# Altium footprint library SOP.PcbLib: 58 footprints (part 3 of 4)
Each footprint in its own frame and in the unit in brackets; x right, y up, seen from the top. Pads: shape width x height; smd on the part's side, far side on the other; paste and mask are expansions set on the pad; w line width, h text height; cw(c..) or ccw(c..) is an arc to the next point about the centre after c.
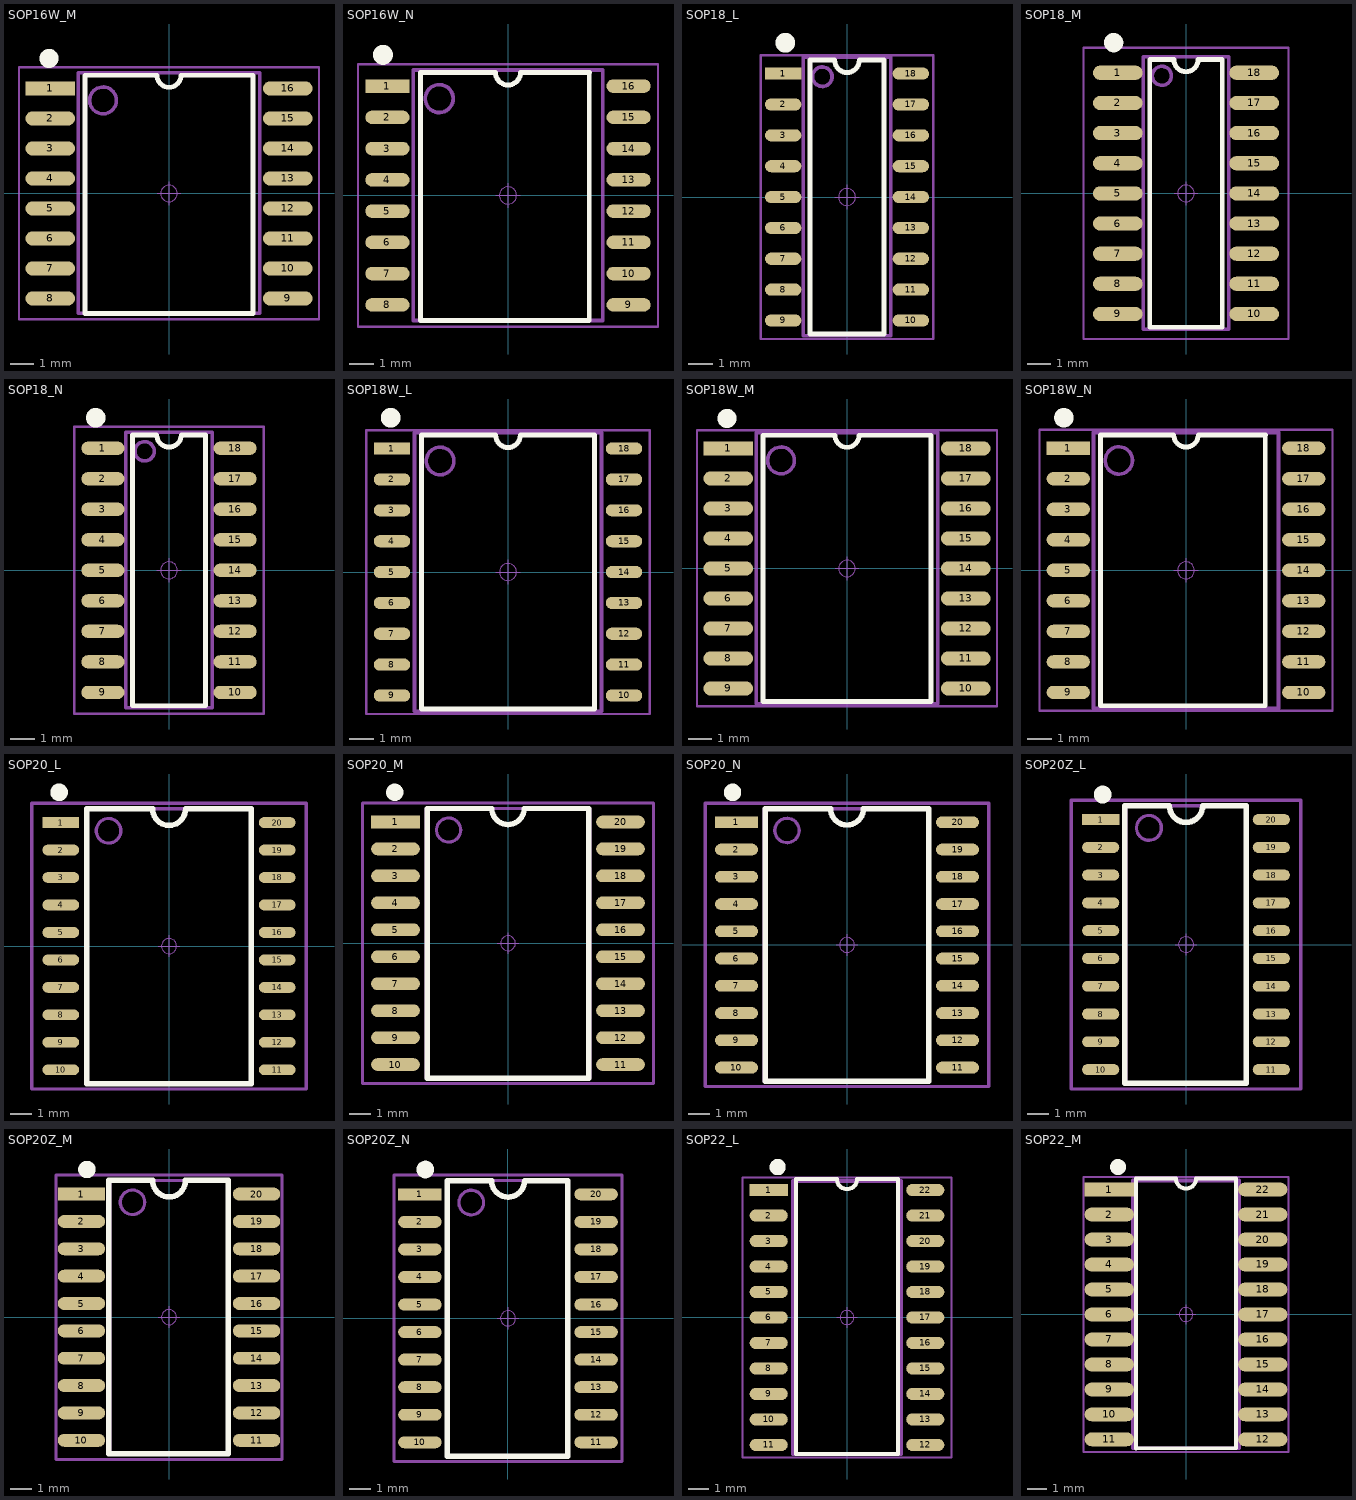
[diagram p2: the footprints below, top view; thin cyan lines are the x and y axes]

## SOP16W_M [mm] "10.3*10.3*2.6mm（长宽高）"
height 1.75
pads (16):
  rect 2.1x0.6 smd: 1(-5.025,4.445)
  oval 2.1x0.6 smd: 2(-5.025,3.175) 3(-5.025,1.905) 4(-5.025,0.635) 5(-5.025,-0.635) 6(-5.025,-1.905) 7(-5.025,-3.175) 8(-5.025,-4.445) 9(5.025,-4.445) 10(5.025,-3.175) 11(5.025,-1.905) 12(5.025,-0.635) 13(5.025,0.635) 14(5.025,1.905) 15(5.025,3.175) 16(5.025,4.445)
Top Overlay:
  circle w0.5: c-5.08,5.715 r0.155
  lines w0.2: -3.556,5 -3.556,-5.08 3.556,-5.08 3.556,5
  lines w0.203: -3.556,5 -0.508,5 ccw(c0,5) 0,4.492 ccw(c0,5) 0.508,5 3.556,5
Mechanical 13:
  circle w0.15: c-2.794,3.937 r0.568
  lines w0.15: -3.85,-5.08 -3.85,5.1 3.85,5.1 3.85,-5.08 -3.85,-5.08
Mechanical 15:
  circle w0.05: c0,0 r0.35
  lines w0.05: -0.5,0 0.5,0 ; 0,-0.5 0,0.5
  lines w0.1: -6.35,-5.334 6.35,-5.334 6.35,5.334 -6.35,5.334 -6.35,-5.334
3D body "SOP16W.STEP": height 2.7, standoff 0, extent -5.153,-5.15 5.153,5.15

## SOP16W_N [mm] "10.3*10.3*2.6mm（长宽高）"
height 1.75
pads (16):
  rect 1.8x0.55 smd: 1(-4.9,4.445)
  oval 1.8x0.55 smd: 2(-4.9,3.175) 3(-4.9,1.905) 4(-4.9,0.635) 5(-4.9,-0.635) 6(-4.9,-1.905) 7(-4.9,-3.175) 8(-4.9,-4.445) 9(4.9,-4.445) 10(4.9,-3.175) 11(4.9,-1.905) 12(4.9,-0.635) 13(4.9,0.635) 14(4.9,1.905) 15(4.9,3.175) 16(4.9,4.445)
Top Overlay:
  circle w0.5: c-5.08,5.715 r0.155
  lines w0.2: -3.556,5 -3.556,-5.08 3.302,-5.08 3.302,5
  lines w0.203: -3.556,5 -0.508,5 ccw(c0,5) 0,4.492 ccw(c0,5) 0.508,5 3.302,5
Mechanical 13:
  circle w0.15: c-2.794,3.937 r0.568
  lines w0.15: -3.85,-5.08 3.85,-5.08 3.85,5.1 -3.85,5.1 -3.85,-5.08
Mechanical 15:
  circle w0.05: c0,0 r0.35
  lines w0.05: -0.5,0 0.5,0 ; 0,-0.5 0,0.5
  lines w0.1: -6.096,-5.334 6.096,-5.334 6.096,5.334 -6.096,5.334 -6.096,-5.334
3D body "SOP16W.STEP": height 2.7, standoff 0, extent -5.153,-5.15 5.153,5.15

## SOP18_L [mm] "11.5*6.2*1.8mm（长宽高）"
height 1.75
pads (18):
  rect 1.5x0.5 smd: 1(-2.625,5.08)
  oval 1.5x0.5 smd: 2(-2.625,3.81) 3(-2.625,2.54) 4(-2.625,1.27) 5(-2.625,0) 6(-2.625,-1.27) 7(-2.625,-2.54) 8(-2.625,-3.81) 9(-2.625,-5.08) 10(2.625,-5.08) 11(2.625,-3.81) 12(2.625,-2.54) 13(2.625,-1.27) 14(2.625,0) 15(2.625,1.27) 16(2.625,2.54) 17(2.625,3.81) 18(2.625,5.08)
Top Overlay:
  circle w0.5: c-2.54,6.35 r0.155
  lines w0.2: -1.524,5.635 -1.524,-5.635 1.524,-5.635 1.524,5.635
  lines w0.203: -1.524,5.635 -0.508,5.635 ccw(c0,5.635) 0,5.127 ccw(c0,5.635) 0.508,5.635 1.524,5.635
Mechanical 13:
  circle w0.15: c-1.016,4.953 r0.402
  lines w0.15: -1.8,-5.715 1.8,-5.715 1.8,5.75 -1.8,5.75 -1.8,-5.715
Mechanical 15:
  circle w0.05: c0,0 r0.35
  lines w0.05: -0.5,0 0.5,0 ; 0,-0.5 0,0.5
  lines w0.1: -3.556,-5.842 3.556,-5.842 3.556,5.842 -3.556,5.842 -3.556,-5.842
3D body "SOP18.STEP": height 1.9, standoff 0, extent -3.003,-5.75 3.003,5.75

## SOP18_M [mm] "11.5*6.2*1.8mm（长宽高）"
height 1.75
pads (18):
  oval 2.1x0.6 smd: 1(-2.875,5.08) 2(-2.875,3.81) 3(-2.875,2.54) 4(-2.875,1.27) 5(-2.875,0) 6(-2.875,-1.27) 7(-2.875,-2.54) 8(-2.875,-3.81) 9(-2.875,-5.08) 10(2.875,-5.08) 11(2.875,-3.81) 12(2.875,-2.54) 13(2.875,-1.27) 14(2.875,0) 15(2.875,1.27) 16(2.875,2.54) 17(2.875,3.81) 18(2.875,5.08)
Top Overlay:
  circle w0.5: c-3.048,6.35 r0.155
  lines w0.2: -1.524,5.635 -1.524,-5.635 1.524,-5.635 1.524,5.635
  lines w0.203: -1.524,5.635 -0.508,5.635 ccw(c0,5.635) 0,5.127 ccw(c0,5.635) 0.508,5.635 1.524,5.635
Mechanical 13:
  circle w0.15: c-1.016,4.953 r0.402
  lines w0.15: -1.8,-5.715 1.8,-5.715 1.8,5.75 -1.8,5.75 -1.8,-5.715
Mechanical 15:
  circle w0.05: c0,0 r0.35
  lines w0.05: -0.5,0 0.5,0 ; 0,-0.5 0,0.5
  lines w0.1: -4.318,-6.135 4.318,-6.135 4.318,6.135 -4.318,6.135 -4.318,-6.135
3D body "SOP18.STEP": height 1.9, standoff 0, extent -3.003,-5.75 3.003,5.75

## SOP18_N [mm] "11.5*6.2*1.8mm（长宽高）"
height 1.75
pads (18):
  oval 1.8x0.55 smd: 1(-2.75,5.08) 2(-2.75,3.81) 3(-2.75,2.54) 4(-2.75,1.27) 5(-2.75,0) 6(-2.75,-1.27) 7(-2.75,-2.54) 8(-2.75,-3.81) 9(-2.75,-5.08) 10(2.75,-5.08) 11(2.75,-3.81) 12(2.75,-2.54) 13(2.75,-1.27) 14(2.75,0) 15(2.75,1.27) 16(2.75,2.54) 17(2.75,3.81) 18(2.75,5.08)
Top Overlay:
  circle w0.5: c-3.048,6.35 r0.155
  lines w0.2: -1.524,5.635 -1.524,-5.635 1.524,-5.635 1.524,5.635
  lines w0.203: -1.524,5.635 -0.508,5.635 ccw(c0,5.635) 0,5.127 ccw(c0,5.635) 0.508,5.635 1.524,5.635
Mechanical 13:
  circle w0.15: c-1.016,4.953 r0.402
  lines w0.15: -1.8,-5.715 1.8,-5.715 1.8,5.75 -1.8,5.75 -1.8,-5.715
Mechanical 15:
  circle w0.05: c0,0 r0.35
  lines w0.05: -0.5,0 0.5,0 ; 0,-0.5 0,0.5
  lines w0.1: -3.937,-5.969 -3.937,5.969 3.937,5.969 3.937,-5.969 -3.937,-5.969
3D body "SOP18.STEP": height 1.9, standoff 0, extent -3.003,-5.75 3.003,5.75

## SOP18W_L [mm] "11.5*10.3*2.6mm（长宽高）"
height 1.75
pads (18):
  rect 1.5x0.5 smd: 1(-4.775,5.08)
  oval 1.5x0.5 smd: 2(-4.775,3.81) 3(-4.775,2.54) 4(-4.775,1.27) 5(-4.775,0) 6(-4.775,-1.27) 7(-4.775,-2.54) 8(-4.775,-3.81) 9(-4.775,-5.08) 10(4.775,-5.08) 11(4.775,-3.81) 12(4.775,-2.54) 13(4.775,-1.27) 14(4.775,0) 15(4.775,1.27) 16(4.775,2.54) 17(4.775,3.81) 18(4.775,5.08)
Top Overlay:
  circle w0.5: c-4.826,6.35 r0.155
  lines w0.2: -3.556,5.635 -3.556,-5.635 3.556,-5.635 3.556,5.635
  lines w0.203: -3.556,5.635 -0.508,5.635 ccw(c0,5.635) 0,5.127 ccw(c0,5.635) 0.508,5.635 3.556,5.635
Mechanical 13:
  circle w0.15: c-2.794,4.572 r0.568
  lines w0.15: -3.85,-5.735 3.85,-5.735 3.85,5.735 -3.85,5.735 -3.85,-5.735
Mechanical 15:
  circle w0.05: c0,0 r0.35
  lines w0.05: -0.5,0 0.5,0 ; 0,-0.5 0,0.5
  lines w0.1: -5.842,-5.842 -5.842,5.842 5.842,5.842 5.842,-5.842 -5.842,-5.842
3D body "SOP18W.STEP": height 2.7, standoff 0, extent -5.153,-5.75 5.153,5.75

## SOP18W_M [mm] "11.5*10.3*2.6mm（长宽高）"
height 1.75
pads (18):
  rect 2.1x0.6 smd: 1(-5.025,5.08)
  oval 2.1x0.6 smd: 2(-5.025,3.81) 3(-5.025,2.54) 4(-5.025,1.27) 5(-5.025,0) 6(-5.025,-1.27) 7(-5.025,-2.54) 8(-5.025,-3.81) 9(-5.025,-5.08) 10(5.025,-5.08) 11(5.025,-3.81) 12(5.025,-2.54) 13(5.025,-1.27) 14(5.025,0) 15(5.025,1.27) 16(5.025,2.54) 17(5.025,3.81) 18(5.025,5.08)
Top Overlay:
  circle w0.5: c-5.08,6.35 r0.155
  lines w0.2: -3.556,5.635 -3.556,-5.635 3.556,-5.635 3.556,5.635
  lines w0.203: -3.556,5.635 -0.508,5.635 ccw(c0,5.635) 0,5.127 ccw(c0,5.635) 0.508,5.635 3.556,5.635
Mechanical 13:
  circle w0.15: c-2.794,4.572 r0.568
  lines w0.15: -3.85,-5.735 -3.85,5.735 3.85,5.735 3.85,-5.735 -3.85,-5.735
Mechanical 15:
  circle w0.05: c0,0 r0.35
  lines w0.05: -0.5,0 0.5,0 ; 0,-0.5 0,0.5
  lines w0.1: -6.35,-5.842 6.35,-5.842 6.35,5.842 -6.35,5.842 -6.35,-5.842
3D body "SOP18W.STEP": height 2.7, standoff 0, extent -5.153,-5.75 5.153,5.75

## SOP18W_N [mm] "11.5*10.3*2.6mm（长宽高）"
height 1.75
pads (18):
  rect 1.8x0.55 smd: 1(-4.9,5.08)
  oval 1.8x0.55 smd: 2(-4.9,3.81) 3(-4.9,2.54) 4(-4.9,1.27) 5(-4.9,0) 6(-4.9,-1.27) 7(-4.9,-2.54) 8(-4.9,-3.81) 9(-4.9,-5.08) 10(4.9,-5.08) 11(4.9,-3.81) 12(4.9,-2.54) 13(4.9,-1.27) 14(4.9,0) 15(4.9,1.27) 16(4.9,2.54) 17(4.9,3.81) 18(4.9,5.08)
Top Overlay:
  circle w0.5: c-5.08,6.35 r0.155
  lines w0.2: -3.556,5.635 -3.556,-5.635 3.302,-5.635 3.302,5.635
  lines w0.203: -3.556,5.635 -0.508,5.635 ccw(c0,5.635) 0,5.127 ccw(c0,5.635) 0.508,5.635 3.302,5.635
Mechanical 13:
  circle w0.15: c-2.794,4.572 r0.568
  lines w0.15: -3.85,-5.735 3.85,-5.735 3.85,5.735 -3.85,5.735 -3.85,-5.735
Mechanical 15:
  circle w0.05: c0,0 r0.35
  lines w0.05: -0.5,0 0.5,0 ; 0,-0.5 0,0.5
  lines w0.1: -6.096,-5.842 6.096,-5.842 6.096,5.842 -6.096,5.842 -6.096,-5.842
3D body "SOP18W.STEP": height 2.7, standoff 0, extent -5.153,-5.75 5.153,5.75

## SOP20_L [mm] "13*10.6*2.6（长宽高）"
pads (20):
  rect 1.7x0.5 smd: 1(-5,5.715)
  oval 1.7x0.5 smd: 2(-5,4.445) 3(-5,3.175) 4(-5,1.905) 5(-5,0.635) 6(-5,-0.635) 7(-5,-1.905) 8(-5,-3.175) 9(-5,-4.445) 10(-5,-5.715) 11(5,-5.715) 12(5,-4.445) 13(5,-3.175) 14(5,-1.905) 15(5,-0.635) 16(5,0.635) 17(5,1.905) 18(5,3.175) 19(5,4.445) 20(5,5.715)
Top Overlay:
  circle w0.5: c-5.08,7.112 r0.155
  lines w0.254: -3.81,-6.35 3.81,-6.35 3.81,6.35 0.765,6.35 cw(c0.003,6.35) 0.003,5.588 cw(c0.003,6.35) -0.759,6.35 -3.81,6.35 -3.81,-6.35
Mechanical 13:
  circle w0.15: c-2.794,5.334 r0.568
  lines w0.15: -3.85,-6.35 3.85,-6.35 3.85,6.35 -3.85,6.35 -3.85,-6.35
Mechanical 15:
  circle w0.05: c0,0 r0.35
  lines w0.05: -0.5,0 0.5,0 ; 0,-0.5 0,0.5
  lines w0.15: -6.35,-6.604 6.35,-6.604 6.35,6.604 -6.35,6.604 -6.35,-6.604
3D body "SOP20.STEP": height 2.7, standoff 0, extent -5.15,-6.35 5.156,6.35

## SOP20_M [mm] "13*10.6*2.6（长宽高）"
pads (20):
  rect 2.3x0.6 smd: 1(-5.3,5.715)
  oval 2.3x0.6 smd: 2(-5.3,4.445) 3(-5.3,3.175) 4(-5.3,1.905) 5(-5.3,0.635) 6(-5.3,-0.635) 7(-5.3,-1.905) 8(-5.3,-3.175) 9(-5.3,-4.445) 10(-5.3,-5.715) 11(5.3,-5.715) 12(5.3,-4.445) 13(5.3,-3.175) 14(5.3,-1.905) 15(5.3,-0.635) 16(5.3,0.635) 17(5.3,1.905) 18(5.3,3.175) 19(5.3,4.445) 20(5.3,5.715)
Top Overlay:
  circle w0.5: c-5.334,7.112 r0.155
  lines w0.254: -3.81,-6.35 -3.81,6.35 -0.762,6.35 ccw(c0,6.35) 0,5.588 ccw(c0,6.35) 0.762,6.35 3.81,6.35 3.81,-6.35 -3.81,-6.35
Mechanical 13:
  circle w0.15: c-2.797,5.334 r0.568
  lines w0.15: -3.853,-6.35 -3.853,6.35 3.847,6.35 3.847,-6.35 -3.853,-6.35
Mechanical 15:
  circle w0.05: c0,0 r0.35
  lines w0.05: -0.5,0 0.5,0 ; 0,-0.5 0,0.5
  lines w0.15: -6.858,-6.604 6.858,-6.604 6.858,6.604 -6.858,6.604 -6.858,-6.604
3D body "SOP20.STEP": height 2.7, standoff 0, extent -5.153,-6.35 5.153,6.35

## SOP20_N [mm] "13*10.6*2.6（长宽高）"
pads (20):
  rect 2x0.55 smd: 1(-5.15,5.715)
  oval 2x0.55 smd: 2(-5.15,4.445) 3(-5.15,3.175) 4(-5.15,1.905) 5(-5.15,0.635) 6(-5.15,-0.635) 7(-5.15,-1.905) 8(-5.15,-3.175) 9(-5.15,-4.445) 10(-5.15,-5.715) 11(5.15,-5.715) 12(5.15,-4.445) 13(5.15,-3.175) 14(5.15,-1.905) 15(5.15,-0.635) 16(5.15,0.635) 17(5.15,1.905) 18(5.15,3.175) 19(5.15,4.445) 20(5.15,5.715)
Top Overlay:
  circle w0.5: c-5.334,7.112 r0.155
  lines w0.254: -3.81,-6.35 -3.81,6.35 -0.762,6.35 ccw(c0,6.35) 0,5.588 ccw(c0,6.35) 0.762,6.35 3.81,6.35 3.81,-6.35 -3.81,-6.35
Mechanical 13:
  circle w0.15: c-2.797,5.334 r0.568
  lines w0.15: -3.853,-6.35 -3.853,6.35 3.847,6.35 3.847,-6.35 -3.853,-6.35
Mechanical 15:
  circle w0.05: c0,0 r0.35
  lines w0.05: -0.5,0 0.5,0 ; 0,-0.5 0,0.5
  lines w0.15: -6.604,-6.604 6.604,-6.604 6.604,6.604 -6.604,6.604 -6.604,-6.604
3D body "SOP20.STEP": height 2.7, standoff 0, extent -5.153,-6.35 5.153,6.35

## SOP20Z_L [mm] "12.5*7.8*2.6（长宽高）窄体"
pads (20):
  rect 1.7x0.5 smd: 1(-3.9,5.715)
  oval 1.7x0.5 smd: 2(-3.9,4.445) 3(-3.9,3.175) 4(-3.9,1.905) 5(-3.9,0.635) 6(-3.9,-0.635) 7(-3.9,-1.905) 8(-3.9,-3.175) 9(-3.9,-4.445) 10(-3.9,-5.715) 11(3.9,-5.715) 12(3.9,-4.445) 13(3.9,-3.175) 14(3.9,-1.905) 15(3.9,-0.635) 16(3.9,0.635) 17(3.9,1.905) 18(3.9,3.175) 19(3.9,4.445) 20(3.9,5.715)
Top Overlay:
  circle w0.5: c-3.81,6.858 r0.155
  lines w0.254: -2.8,-6.35 2.75,-6.35 2.75,6.35 0.765,6.35 cw(c0.003,6.35) 0.003,5.588 cw(c0.003,6.35) -0.759,6.35 -2.8,6.35 -2.8,-6.35
Mechanical 13:
  circle w0.15: c-1.694,5.334 r0.568
  lines w0.15: -2.75,-6.35 2.75,-6.35 2.75,6.35 -2.75,6.35 -2.75,-6.35
Mechanical 15:
  circle w0.05: c0,0 r0.35
  lines w0.05: -0.5,0 0.5,0 ; 0,-0.5 0,0.5
  lines w0.15: -5.25,-6.604 5.25,-6.604 5.25,6.604 -5.25,6.604 -5.25,-6.604
3D body "SOP20窄体.STEP": height 2.7, standoff 0, extent -4.003,-6.25 4.004,6.25

## SOP20Z_M [mm] "12.5*7.8*2.6（长宽高）窄体"
pads (20):
  rect 2.2x0.6 smd: 1(-4.064,5.715)
  oval 2.2x0.6 smd: 2(-4.064,4.445) 3(-4.064,3.175) 4(-4.064,1.905) 5(-4.064,0.635) 6(-4.064,-0.635) 7(-4.064,-1.905) 8(-4.064,-3.175) 9(-4.064,-4.445) 10(-4.064,-5.715) 11(4.064,-5.715) 12(4.064,-4.445) 13(4.064,-3.175) 14(4.064,-1.905) 15(4.064,-0.635) 16(4.064,0.635) 17(4.064,1.905) 18(4.064,3.175) 19(4.064,4.445) 20(4.064,5.715)
Top Overlay:
  circle w0.5: c-3.81,6.858 r0.155
  lines w0.254: -2.8,-6.35 2.75,-6.35 2.75,6.35 0.765,6.35 cw(c0.003,6.35) 0.003,5.588 cw(c0.003,6.35) -0.759,6.35 -2.8,6.35 -2.8,-6.35
Mechanical 13:
  circle w0.15: c-1.694,5.334 r0.568
  lines w0.15: -2.75,-6.35 2.75,-6.35 2.75,6.35 -2.75,6.35 -2.75,-6.35
Mechanical 15:
  circle w0.05: c0,0 r0.35
  lines w0.05: -0.5,0 0.5,0 ; 0,-0.5 0,0.5
  lines w0.15: -5.25,-6.604 5.25,-6.604 5.25,6.604 -5.25,6.604 -5.25,-6.604
3D body "SOP20窄体.STEP": height 2.7, standoff 0, extent -4.003,-6.25 4.004,6.25

## SOP20Z_N [mm] "12.5*7.8*2.6（长宽高）窄体"
pads (20):
  rect 2x0.55 smd: 1(-4.064,5.715)
  oval 2x0.55 smd: 2(-4.064,4.445) 3(-4.064,3.175) 4(-4.064,1.905) 5(-4.064,0.635) 6(-4.064,-0.635) 7(-4.064,-1.905) 8(-4.064,-3.175) 9(-4.064,-4.445) 10(-4.064,-5.715) 11(4.064,-5.715) 12(4.064,-4.445) 13(4.064,-3.175) 14(4.064,-1.905) 15(4.064,-0.635) 16(4.064,0.635) 17(4.064,1.905) 18(4.064,3.175) 19(4.064,4.445) 20(4.064,5.715)
Top Overlay:
  circle w0.5: c-3.81,6.858 r0.155
  lines w0.254: -2.8,-6.35 2.75,-6.35 2.75,6.35 0.765,6.35 cw(c0.003,6.35) 0.003,5.588 cw(c0.003,6.35) -0.759,6.35 -2.8,6.35 -2.8,-6.35
Mechanical 13:
  circle w0.15: c-1.694,5.334 r0.568
  lines w0.15: -2.75,-6.35 2.75,-6.35 2.75,6.35 -2.75,6.35 -2.75,-6.35
Mechanical 15:
  circle w0.05: c0,0 r0.35
  lines w0.05: -0.5,0 0.5,0 ; 0,-0.5 0,0.5
  lines w0.15: -5.25,-6.604 5.25,-6.604 5.25,6.604 -5.25,6.604 -5.25,-6.604
3D body "SOP20窄体.STEP": height 2.7, standoff 0, extent -4.003,-6.25 4.004,6.25

## SOP22_L [mm] "13.6*5.4*1.8mm（长宽高）"
height 1.8
pads (22):
  rect 1.9x0.6 smd: 1(-3.9,6.35)
  oval 1.9x0.6 smd: 2(-3.9,5.08) 3(-3.9,3.81) 4(-3.9,2.54) 5(-3.9,1.27) 6(-3.9,0) 7(-3.9,-1.27) 8(-3.9,-2.54) 9(-3.9,-3.81) 10(-3.9,-5.08) 11(-3.9,-6.35) 12(3.9,-6.35) 13(3.9,-5.08) 14(3.9,-3.81) 15(3.9,-2.54) 16(3.9,-1.27) 17(3.9,0) 18(3.9,1.27) 19(3.9,2.54) 20(3.9,3.81) 21(3.9,5.08) 22(3.9,6.35)
Top Overlay:
  circle w0.5: c-3.457,7.493 r0.155
  lines w0.2: -2.549,6.905 -2.549,-6.802 2.549,-6.798 2.549,6.905
  lines w0.203: -2.549,6.905 -0.508,6.905 ccw(c0,6.905) 0,6.397 ccw(c0,6.905) 0.508,6.905 2.549,6.905
Mechanical 13:
  lines w0.2: -2.7,-6.8 -2.7,6.8 2.7,6.8 2.7,-6.8 -2.7,-6.8
Mechanical 15:
  circle w0.05: c0,0 r0.35
  lines w0.05: -0.5,0 0.5,0 ; 0,-0.5 0,0.5
  lines w0.1: -5.207,-6.985 -5.207,6.985 5.207,6.985 5.207,-6.985 -5.207,-6.985
3D body "SOP22.STEP": height 2.1, standoff -0.02, extent -4.053,-6.8 4.053,6.8

## SOP22_M [mm] "13.6*5.4*1.8mm（长宽高）"
height 1.8
pads (22):
  rect 2.5x0.7 smd: 1(-3.9,6.35)
  oval 2.5x0.7 smd: 2(-3.9,5.08) 3(-3.9,3.81) 4(-3.9,2.54) 5(-3.9,1.27) 6(-3.9,0) 7(-3.9,-1.27) 8(-3.9,-2.54) 9(-3.9,-3.81) 10(-3.9,-5.08) 11(-3.9,-6.35) 12(3.9,-6.35) 13(3.9,-5.08) 14(3.9,-3.81) 15(3.9,-2.54) 16(3.9,-1.27) 17(3.9,0) 18(3.9,1.27) 19(3.9,2.54) 20(3.9,3.81) 21(3.9,5.08) 22(3.9,6.35)
Top Overlay:
  circle w0.5: c-3.457,7.493 r0.155
  lines w0.2: -2.549,6.905 -2.549,-6.802 2.549,-6.798 2.549,6.905
  lines w0.203: -2.549,6.905 -0.508,6.905 ccw(c0,6.905) 0,6.397 ccw(c0,6.905) 0.508,6.905 2.549,6.905
Mechanical 13:
  lines w0.2: -2.7,-6.8 2.7,-6.8 2.7,6.8 -2.7,6.8 -2.7,-6.8
Mechanical 15:
  circle w0.05: c0,0 r0.35
  lines w0.05: -0.5,0 0.5,0 ; 0,-0.5 0,0.5
  lines w0.1: -5.207,-6.985 5.207,-6.985 5.207,6.985 -5.207,6.985 -5.207,-6.985
3D body "SOP22.STEP": height 2.1, standoff -0.02, extent -4.053,-6.8 4.053,6.8